# Altium footprint library Kilian_UCC_Library.PcbLib: 153 footprints (part 10 of 10)
Each footprint in its own frame and in the unit in brackets; x right, y up, seen from the top. Pads: shape width x height; smd on the part's side, far side on the other; paste and mask are expansions set on the pad; w line width, h text height; cw(c..) or ccw(c..) is an arc to the next point about the centre after c.
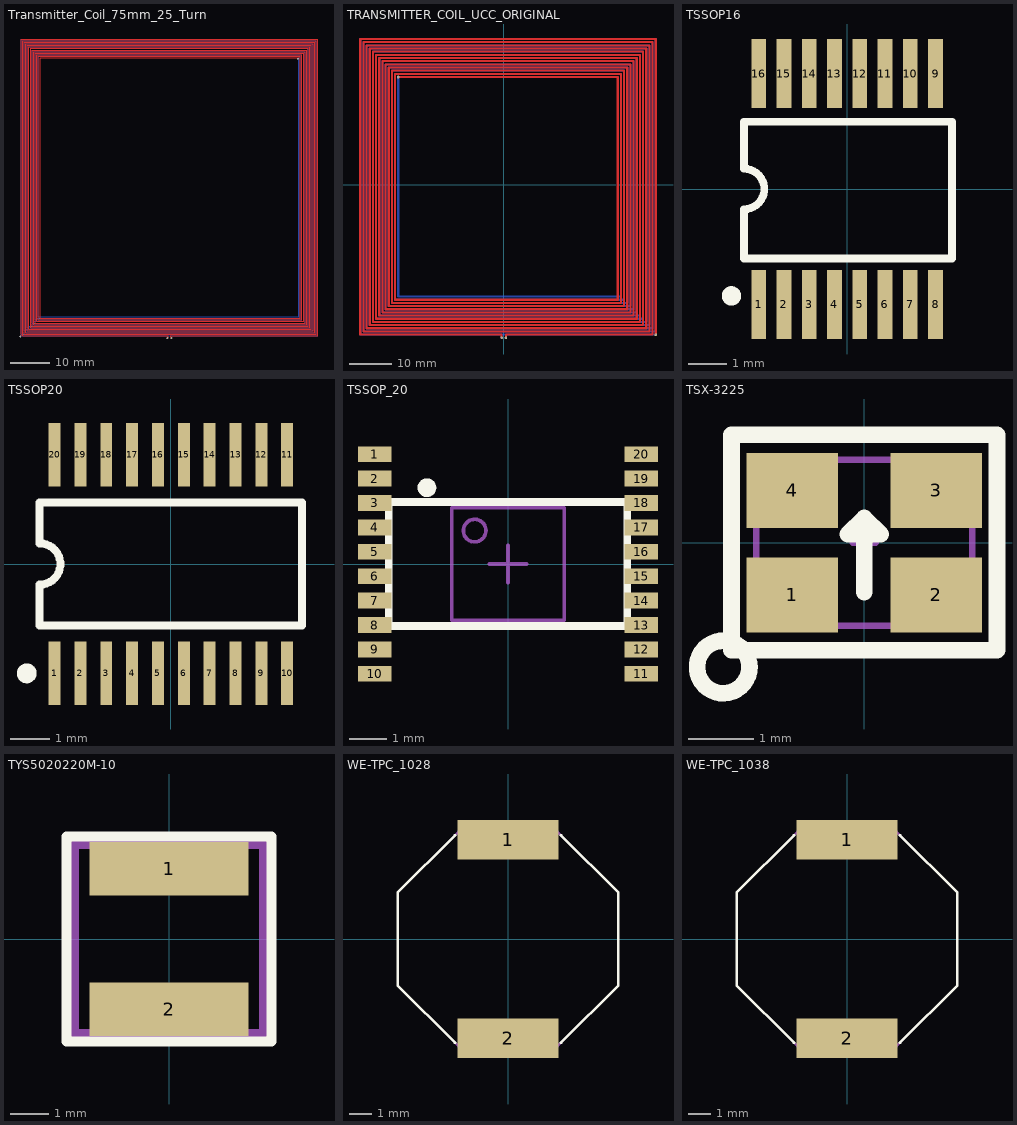
[diagram p9: the footprints below, top view; thin cyan lines are the x and y axes]

## Transmitter_Coil_75mm_25_Turn [mil]
pads (2):
  round 18 hole 10: 1(-47913.39,-49275.59) 2(-47874.02,-49275.59)
via -49377.95,-49259.84 diameter 18 hole 10
via -46614.17,-46496.06 diameter 18 hole 10
Top Layer:
  lines w10: -49377.95,-49259.84 -49370.08,-49251.97 -49370.08,-46299.21 -46417.32,-46299.21 -46417.32,-49251.97 -47151.57,-49251.97 -47874.02,-49251.97 -47881.89,-49251.97 -47881.89,-49267.72 ; -47913.39,-49275.59 -47905.51,-49267.72 -47905.51,-49251.97 -48620.08,-49251.97 -49354.33,-49251.97 -49354.33,-46314.96 -46433.07,-46314.96 -46433.07,-49236.22 -49338.58,-49236.22 -49338.58,-46330.71 -46448.82,-46330.71 -46448.82,-49220.47 -49322.83,-49220.47 -49322.83,-46346.46 -46464.57,-46346.46 -46464.57,-49204.72 -49307.09,-49204.72 -49307.09,-46362.2 -46480.32,-46362.2 -46480.32,-49188.98 -49291.34,-49188.98 -49291.34,-46377.95 -46496.06,-46377.95 -46496.06,-49173.23 -49275.59,-49173.23 -49275.59,-46393.7 -46511.81,-46393.7 -46511.81,-49157.48 -49259.84,-49157.48 -49259.84,-46409.45 -46527.56,-46409.45 -46527.56,-49141.73 -49244.09,-49141.73 -49244.09,-46425.2 -46543.31,-46425.2 -46543.31,-49125.98 -49228.35,-49125.98 -49228.35,-46440.94 -46559.06,-46440.94 -46559.06,-49110.24 -49212.6,-49110.24 -49212.6,-46456.69 -46574.8,-46456.69 -46574.8,-49094.49 -49196.85,-49094.49 -49196.85,-46472.44 -46590.55,-46472.44 -46590.55,-49078.74 -49181.1,-49078.74 -49181.1,-46488.19 -46637.8,-46488.19 -46606.3,-46488.19 ; -47881.89,-49259.84 -47881.89,-49267.72 ; -47874.02,-49275.59 -47881.89,-49267.72
Bottom Layer:
  lines w10: -49377.95,-49259.84 -49370.08,-49251.97 -46417.32,-49251.97 -46417.32,-46299.21 -49370.08,-46299.21 -49370.08,-49236.22 -46433.07,-49236.22 -46433.07,-46314.96 -49354.33,-46314.96 -49354.33,-49220.47 -46448.82,-49220.47 -46448.82,-46330.71 -49338.58,-46330.71 -49338.58,-49204.72 -46464.57,-49204.72 -46464.57,-46346.46 -49322.83,-46346.46 -49322.83,-49188.98 -46480.32,-49188.98 -46480.32,-46362.2 -49307.09,-46362.2 -49307.09,-49173.23 -46496.06,-49173.23 -46496.06,-46377.95 -49291.34,-46377.95 -49291.34,-49157.48 -46511.81,-49157.48 -46511.81,-46393.7 -49275.59,-46393.7 -49275.59,-49141.73 -46527.56,-49141.73 -46527.56,-46409.45 -49259.84,-46409.45 -49259.84,-49125.98 -46543.31,-49125.98 -46543.31,-46425.2 -49244.09,-46425.2 -49244.09,-49110.24 -46559.06,-49110.24 -46559.06,-46440.94 -49228.35,-46440.94 -49228.35,-49094.49 -46574.8,-49094.49 -46574.8,-46456.69 -49212.6,-46456.69 -49212.6,-49078.74 -46590.55,-49078.74 -46590.55,-46472.44 -49196.85,-46472.44 -49196.85,-49062.99 -46606.3,-49062.99 -46606.3,-46519.68 -46606.3,-46488.19

## TRANSMITTER_COIL_UCC_ORIGINAL [mil] "Original 70mm coil, 0.5mm trace width, 0.25mm separation"
pads (2):
  round 24 hole 12: 1(19.68,-1427.17) 2(-19.69,-1427.17)
via 1417.32,-1397.64 diameter 24 hole 12
via -984.25,1003.94 diameter 24 hole 12
Top Layer:
  lines w19.68: -984.25,1003.94 1062.99,1003.94 1062.99,-1072.83 -1013.78,-1072.83 -1013.78,1033.46 1092.52,1033.46 1092.52,-1102.36 -1043.31,-1102.36 -1043.31,1062.99 1122.05,1062.99 1122.05,-1131.89 -1072.83,-1131.89 -1072.83,1092.52 1151.57,1092.52 1151.57,-1161.42 -1102.36,-1161.42 -1102.36,1122.05 1181.1,1122.05 1181.1,-1190.94 -1131.89,-1190.94 -1131.89,1151.57 1210.63,1151.57 1210.63,-1220.47 -1161.42,-1220.47 -1161.42,1181.1 1240.16,1181.1 1240.16,-1250 -1190.94,-1250 -1190.94,1210.63 1269.68,1210.63 1269.68,-1279.53 -1220.47,-1279.53 -1220.47,1240.16 1299.21,1240.16 1299.21,-1309.06 -1250,-1309.06 -1250,1269.68 1328.74,1269.68 1328.74,-1338.58 -1279.53,-1338.58 -1279.53,1299.21 1358.27,1299.21 1358.27,-1368.11 -1309.06,-1368.11 -1309.06,1328.74 1387.8,1328.74 1387.8,-1397.64 19.68,-1397.64 19.68,-1427.17 ; -19.69,-1427.17 -19.69,-1397.64 -1338.58,-1397.64 -1338.58,1358.27 1417.32,1358.27 1417.32,-1397.64
Bottom Layer:
  lines w19.68: -984.25,1003.94 -984.25,-1043.31 1092.52,-1043.31 1092.52,1033.46 -1013.78,1033.46 -1013.78,-1072.83 1122.05,-1072.83 1122.05,1062.99 -1043.31,1062.99 -1043.31,-1102.36 1151.57,-1102.36 1151.57,1092.52 -1072.83,1092.52 -1072.83,-1131.89 1181.1,-1131.89 1181.1,1122.05 -1102.36,1122.05 -1102.36,-1161.42 1210.63,-1161.42 1210.63,1151.57 -1131.89,1151.57 -1131.89,-1190.94 1240.16,-1190.94 1240.16,1181.1 -1161.42,1181.1 -1161.42,-1220.47 1269.68,-1220.47 1269.68,1210.63 -1190.94,1210.63 -1190.94,-1250 1299.21,-1250 1299.21,1240.16 -1220.47,1240.16 -1220.47,-1279.53 1328.74,-1279.53 1328.74,1269.68 -1250,1269.68 -1250,1250 -1250,-1309.06 1358.27,-1309.06 1358.27,1299.21 -1279.53,1299.21 -1279.53,-1338.58 1387.8,-1338.58 1387.8,1328.74 -1309.06,1328.74 -1309.06,-1368.11 1417.32,-1368.11 1417.32,1358.27 -1338.58,1358.27 -1338.58,-1397.64 1417.32,-1397.64

## TSSOP16 [mm]
height 1.1
pads (16):
  rect 0.38x1.78 smd: 1(-2.275,-2.97) 2(-1.625,-2.97) 3(-0.975,-2.97) 4(-0.325,-2.97) 5(0.325,-2.97) 6(0.975,-2.97) 7(1.625,-2.97) 8(2.275,-2.97) 9(2.275,2.97) 10(1.625,2.97) 11(0.975,2.97) 12(0.325,2.97) 13(-0.325,2.97) 14(-0.975,2.97) 15(-1.625,2.97) 16(-2.275,2.97)
Top Overlay:
  circle w0.25: c-2.975,-2.75 r0.125
  lines w0.2: -2.65,-1.79 -2.65,-0.52 ccw(c-2.65,0) -2.65,0.52 -2.65,1.73 2.7,1.73 2.7,-1.79 -2.65,-1.79

## TSSOP20 [mm] "Shrink Small Outline; 20 Leads; Body Width 4.4 mm; Pitch 0.65 mm"
height 1.1
pads (20):
  rect 0.3x1.6 smd: 1(-2.925,-2.75) 2(-2.275,-2.75) 3(-1.625,-2.75) 4(-0.975,-2.75) 5(-0.325,-2.75) 6(0.325,-2.75) 7(0.975,-2.75) 8(1.625,-2.75) 9(2.275,-2.75) 10(2.925,-2.75) 11(2.925,2.75) 12(2.275,2.75) 13(1.625,2.75) 14(0.975,2.75) 15(0.325,2.75) 16(-0.325,2.75) 17(-0.975,2.75) 18(-1.625,2.75) 19(-2.275,2.75) 20(-2.925,2.75)
Top Overlay:
  circle w0.25: c-3.625,-2.75 r0.125
  lines w0.2: -3.3,-1.55 -3.3,-0.52 ccw(c-3.3,0) -3.3,0.52 -3.3,1.55 3.3,1.55 3.3,-1.55 -3.3,-1.55

## TSSOP_20 [mm]
height 1.1
pads (20):
  rect 0.889x0.42 smd mask+0.05: 1(-3.55,2.925) 2(-3.55,2.275) 3(-3.55,1.625) 4(-3.55,0.975) 5(-3.55,0.325) 6(-3.55,-0.325) 7(-3.55,-0.975) 8(-3.55,-1.625) 9(-3.55,-2.275) 10(-3.55,-2.925) 11(3.55,-2.925) 12(3.55,-2.275) 13(3.55,-1.625) 14(3.55,-0.975) 15(3.55,-0.325) 16(3.55,0.325) 17(3.55,0.975) 18(3.55,1.625) 19(3.55,2.275) 20(3.55,2.925)
Top Overlay:
  circle w0.25: c-2.159,2.032 r0.125
  lines w0.2: -3.175,-1.651 -3.175,1.651 3.175,1.651 3.175,-1.651 -3.175,-1.651
Mechanical 13:
  circle w0.1: c-0.889,0.889 r0.3
  lines w0.1: -1.5,-1.5 1.5,-1.5 1.5,1.5 -1.5,1.5 -1.5,-1.5
Mechanical 15:
  lines w0.1: -0.5,0 0.5,0 ; 0,-0.5 0,0.5 ; -3.175,-1.651 3.175,-1.651 3.175,1.651 -3.175,1.651 -3.175,-1.651
3D body: height 1.75, standoff 0, extent -1.5,-1.5 1.5,1.5

## TSX-3225 [mm] "MHz RANGE CRYSTAL UNIT  MINIATURE SIZE LOW PROFILE SMD"
height 0.6
pads (4):
  rect 1.4x1.15 smd: 1(-1.1,-0.8) 2(1.1,-0.8) 3(1.1,0.8) 4(-1.1,0.8)
Top Overlay:
  circle w0.254: c-2.159,-1.905 r0.402
  lines w0.254: 0,-0.762 0,0.381 ; 0,0.381 -0.254,0.127 0.254,0.127 0,0.381 ; -2.032,-1.651 -2.032,1.651 2.032,1.651 2.032,-1.651 -2.032,-1.651
Mechanical 13:
  lines w0.1: -1.651,-1.27 -1.651,1.27 1.651,1.27 1.651,-1.27 -1.651,-1.27
Mechanical 15:
  lines w0.1: -0.175,0 0.175,0 ; 0,-0.175 0,0.175 ; -1.651,-1.27 -1.651,1.27 1.651,1.27 1.651,-1.27 -1.651,-1.27
3D body: height 0.6, standoff 0, extent -1.651,-1.27 1.651,1.27

## TYS5020220M-10 [mm] "SMD Shield Tiny Power Inductor, body  5*5*2mm"
height 2
pads (2):
  rect 4.2x1.4 smd: 1(0,1.85) 2(0,-1.85)
Top Overlay:
  lines w0.254: -2.7,-2.7 2.7,-2.7 2.7,2.7 -2.7,2.7 -2.7,-2.7
Mechanical 1:
  lines w0.254: -2.5,-2.5 2.5,-2.5 2.5,2.5 -2.5,2.5 -2.5,-2.5
3D body: height 2, standoff 0, extent -2.5,-2.5 2.5,2.5

## WE-TPC_1028 [mm] "SMD Shield Tiny Power Inductor, body  10*10*2.8mm"
height 2.8
pads (2):
  rect 4.6x1.8 smd: 1(0,4.5) 2(0,-4.5)
Top Overlay:
  lines w0.12: -5.001,-2.101 -2.401,-4.701 ; -5,-2.1 -5,2.1 -2.4,4.7 ; 2.399,-4.701 4.999,-2.101 ; 2.4,4.7 5,2.1 5,-2.1
Mechanical 13:
  lines w0.12: -2.401,-4.701 -2.101,-5.001 2.099,-5.001 2.399,-4.701 ; -2.4,4.7 -2.1,5 2.1,5 2.4,4.7
3D body: height 2.8, standoff 0.02, extent -5.001,-5 4.999,5

## WE-TPC_1038 [mm] "SMD Shield Tiny Power Inductor, body  10*10*3.8mm"
height 3.8
pads (2):
  rect 4.6x1.8 smd: 1(0,4.5) 2(0,-4.5)
Top Overlay:
  lines w0.12: -5.001,-2.101 -2.401,-4.701 ; -5,-2.1 -5,2.1 -2.4,4.7 ; 2.399,-4.701 4.999,-2.101 ; 2.4,4.7 5,2.1 5,-2.1
Mechanical 13:
  lines w0.12: -2.401,-4.701 -2.101,-5.001 2.099,-5.001 2.399,-4.701 ; -2.4,4.7 -2.1,5 2.1,5 2.4,4.7
3D body: height 3.8, standoff 0, extent -5,-5 5,5